# EAGLE library part LT1028 (library MDB_HOME)
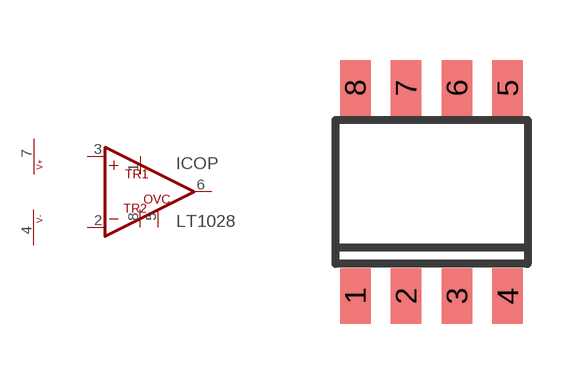
[diagram p45: symbol with the pads of S8; footprint S8]

Designator prefix IC; gates G$2=PWR+- OP=OPAMP_OFFS

## LT1028S8  [S8]
1  OP:TRIM1
2  OP:-IN  in
3  OP:+IN  in
4  G$2:V-  pwr
5  OP:OVC
6  OP:OUT  out
7  G$2:V+  pwr
8  OP:TRIM2

## Footprint S8 (pad centres in mm)
8-Lead Plastic Small Outline Narrow .150 Inch Source: http://cds.linear.com/docs/Datasheet/623012fb.pdf
smd 0.762 x 1.397: 1 -1.905,-2.6; 2 -0.635,-2.6; 3 0.635,-2.6; 4 1.905,-2.6; 5 1.905,2.6; 6 0.635,2.6; 7 -0.635,2.6; 8 -1.905,2.6